# Altium schematic symbol library IGBT 60N120T.SchLib: 1 symbol
Pins are listed as number, name and electrical type; pins without a type are passive.

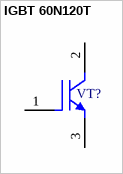
[diagram p0: symbol IGBT 60N120T]

## IGBT 60N120T
designator VT?, comment IGBT 60N120TG  (value not drawn)
IGBT 60N120T TO-264-3
footprint TO-264-3
footprint TO-247
pins: 1 G, 2 C, 3 E